# EAGLE library part S25FL1*K0X (library Memory)
IC 3.0V SPI Flash Memory Datasheet <http://www.cypress.com/file/196886/download>
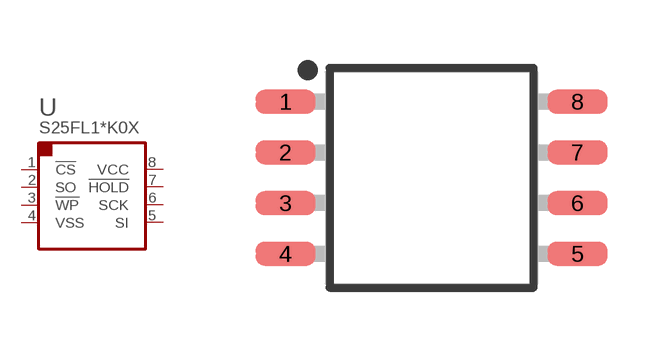
[diagram p11: symbol with the pads of SOIC-8W; footprint SOIC-8W]

Designator prefix U

## S25FL116K0XMFI011, S25FL132K0XMFI011, S25FL164K0XMFI011 (PARTNO: 01-100529-00)  [SOIC-8W]
1  !CS  in
2  SO  out
3  !WP  in
4  VSS  pwr
5  SI  in
6  SCK  in
7  !HOLD  in
8  VCC  pwr

## Footprint SOIC-8W (pad centres in mm)
SOIC, 8-Leads Wide, 208mils Body 5.30x5.30mm, Pitch 1.27mm, IPC Medium Density
smd 1.5 x 0.6: 1 -3.65,1.905; 2 -3.65,0.635; 3 -3.65,-0.635; 4 -3.65,-1.905; 5 3.65,-1.905; 6 3.65,-0.635; 7 3.65,0.635; 8 3.65,1.905